# EAGLE library part M24LR64-RDW6/2 (library ST Microelctronics_By_element14_Batch_1)
64 Kbit EEPROM
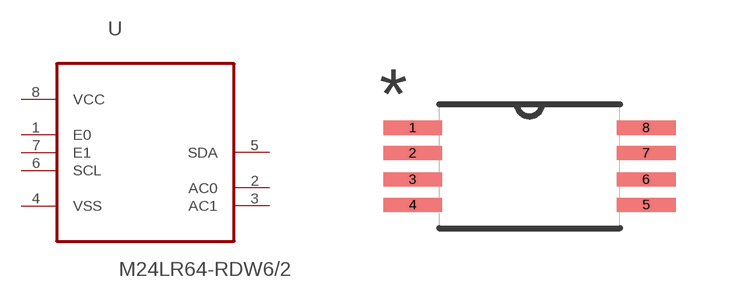
[diagram p157: symbol with the pads of SOP65P640X120-8N; footprint SOP65P640X120-8N]

Designator prefix U

## M24LR64-RDW6/2 (MPN: M24LR64-RDW6/2; OC_FARNELL: 1794172; OC_NEWARK: 69R9859; PACKAGE: TSSOP-8; SUPPLIER: STMicroelectronics)  [SOP65P640X120-8N]
1  E0  in
2  AC0
3  AC1
4  VSS  pas
5  SDA
6  SCL  in
7  E1  in
8  VCC  pwr

## Footprint SOP65P640X120-8N (pad centres in mm)
smd 1.473 x 0.356: 1 -2.921,0.965; 2 -2.921,0.33; 3 -2.921,-0.33; 4 -2.921,-0.965; 5 2.921,-0.965; 6 2.921,-0.33; 7 2.921,0.33; 8 2.921,0.965